# Altium schematic symbol library Regulator_Controller.SchLib: 153 symbols (part 2 of 2)
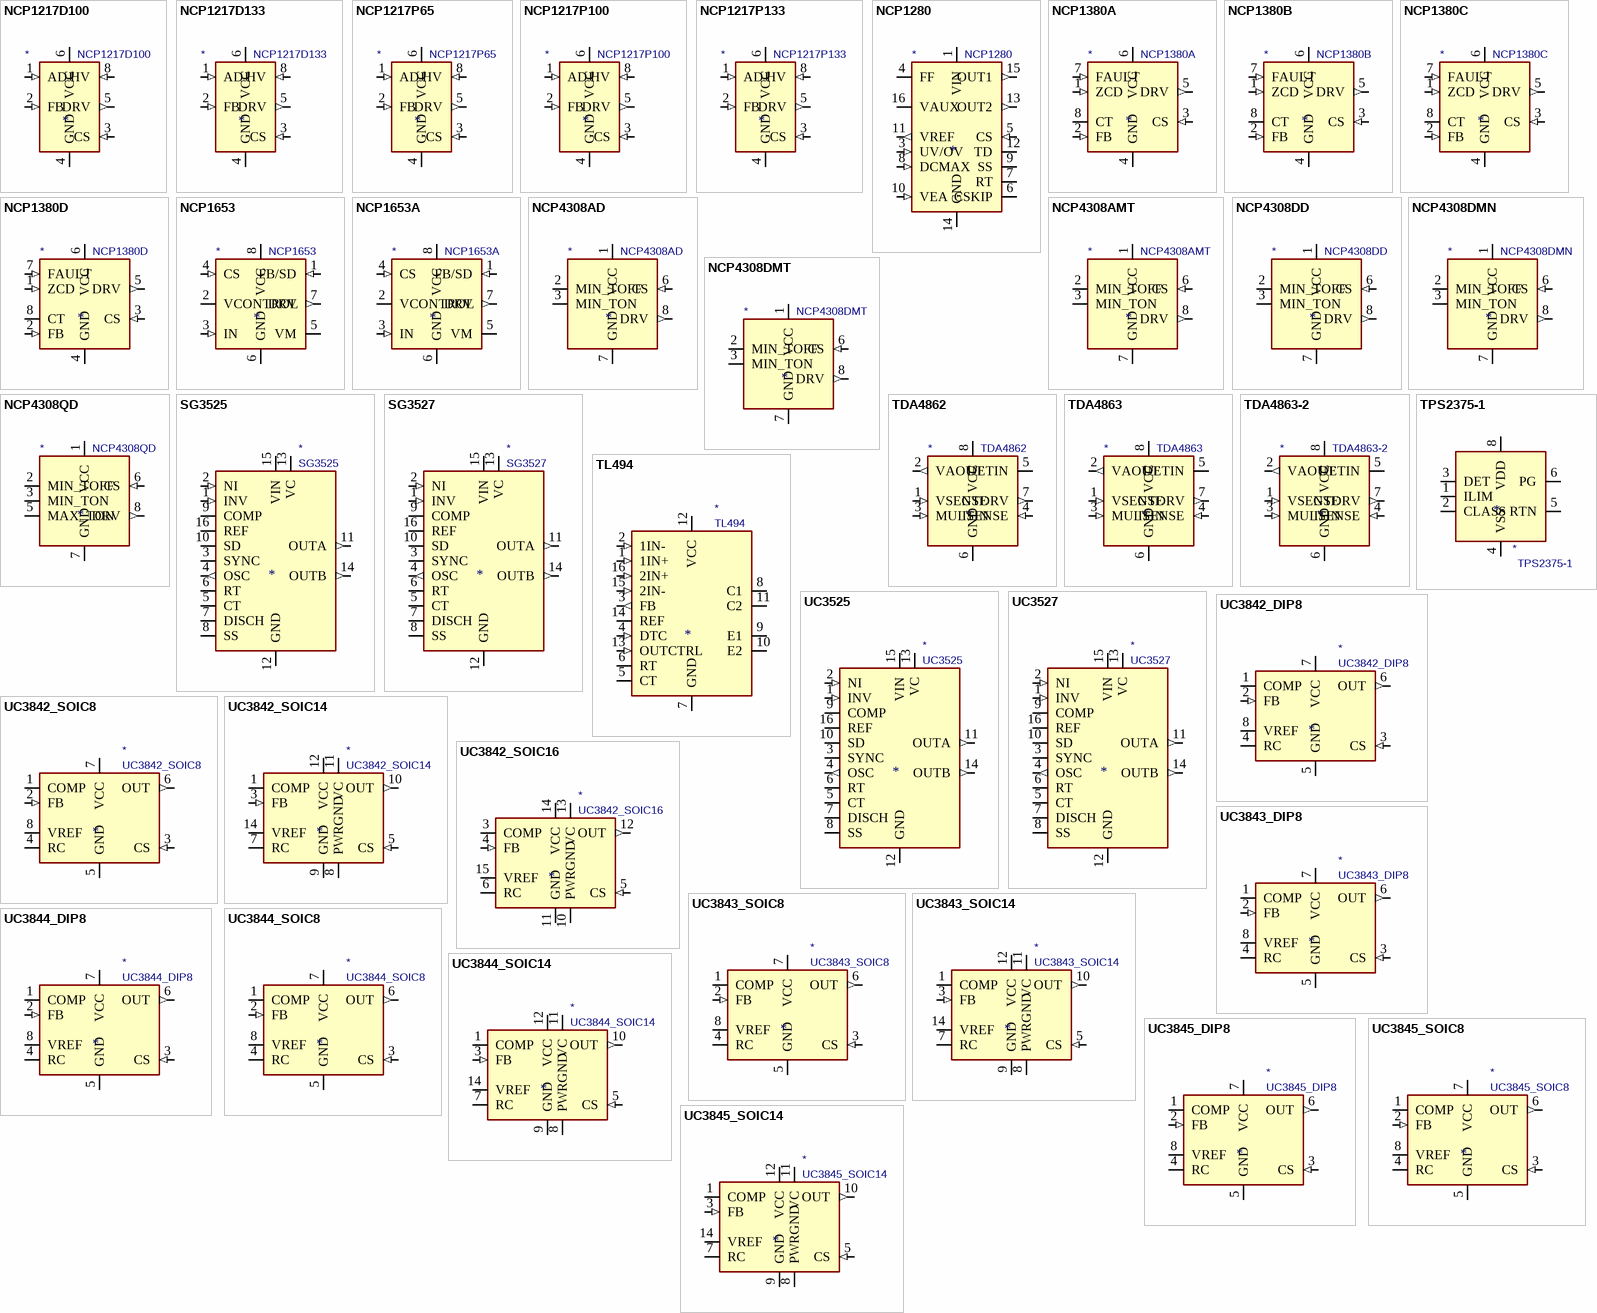
[diagram p4: symbols NCP1217D100 to UC3845_SOIC14]

## SG3525
designator *  value SG3525
ki_keywords: SMPS PWM Controller; ki_description: Regulating Pulse Width Modulators, NOR Logic, PDIP-16/SOIC-16; ki_fp_filters: SOIC*16*3.9x9.9mm*P1.27mm* SOIC*16*7.5x10.3mm*P1.27mm* DIP*16*W7.62mm*; Supplier: www.st.com/resource/en/datasheet/sg3525.pdf
pins: 1 INV (in), 2 NI (in), 3 SYNC, 4 OSC (out), 5 CT, 6 RT, 7 DISCH (oc), 8 SS, 9 COMP, 10 SD, 11 OUTA (out), 12 GND (power), 13 VC (power), 14 OUTB (out), 15 VIN (power), 16 REF (power)

## SG3527
designator *  value SG3527
ki_keywords: SMPS PWM Controller; ki_description: Regulating Pulse Width Modulators, OR Logic, PDIP-16/SOIC-16; ki_fp_filters: SOIC*16*3.9x9.9mm*P1.27mm* SOIC*16*7.5x10.3mm*P1.27mm* DIP*16*W7.62mm*; Supplier: https://www.microsemi.com/document-portal/doc_view/11120-sg1525a-sg1527a-datasheet
pins: 1 INV (in), 2 NI (in), 3 SYNC, 4 OSC (out), 5 CT, 6 RT, 7 DISCH (oc), 8 SS, 9 COMP, 10 SD, 11 OUTA (out), 12 GND (power), 13 VC (power), 14 OUTB (out), 15 VIN (power), 16 REF (power)

## TDA4862
designator *  value TDA4862
ki_keywords: PFC SMPS Controller; ki_description: Power Factor Controller IC for High Power Factor and Active Harmonic Filter, DIP-8/SOIC-8; ki_fp_filters: SOIC*3.9x4.9mm*P1.27mm* DIP*W7.62mm*; Supplier: https://www.infineon.com/dgdl/Infineon-PFC_DCMICTDA4862G-DS-v02_00-en.pdf?fileId=db3a304412b407950112b417ffae24a3
pins: 1 VSENSE (in), 2 VAOUT (out), 3 MULTIN (in), 4 ISENSE (in), 5 DETIN, 6 GND (power), 7 GTDRV (out), 8 VCC (power)

## TDA4863
designator *  value TDA4863
ki_keywords: PFC SMPS Controller; ki_description: Power Factor Controller IC for High Power Factor and Low THD, DIP-8/SOIC-8; ki_fp_filters: SOIC*3.9x4.9mm*P1.27mm* DIP*W7.62mm*; Supplier: https://www.infineon.com/dgdl/Infineon-TDA4863-DS-v02_00-en.pdf?fileId=db3a304412b407950112b427d2d23ce8
pins: 1 VSENSE (in), 2 VAOUT (out), 3 MULTIN (in), 4 ISENSE (in), 5 DETIN, 6 GND (power), 7 GTDRV (out), 8 VCC (power)

## TDA4863-2
designator *  value TDA4863-2
ki_keywords: PFC SMPS Controller; ki_description: Power Factor Controller IC for High Power Factor and Low THD, DIP-8/SOIC-8; ki_fp_filters: SOIC*3.9x4.9mm*P1.27mm* DIP*W7.62mm*; Supplier: https://www.infineon.com/dgdl/Infineon-TDA4863_2-DS-v02_01-en.pdf?fileId=db3a304412b407950112b41802de24ab
pins: 1 VSENSE (in), 2 VAOUT (out), 3 MULTIN (in), 4 ISENSE (in), 5 DETIN, 6 GND (power), 7 GTDRV (out), 8 VCC (power)

## TL494
designator *  value TL494
ki_keywords: SMPS PWM Controller; ki_description: Pulse-Width-Modulation Control Circuits, PDIP-16/SOIC-16/TSSOP-16; ki_fp_filters: TSSOP*4.4x5mm*P0.65mm* SOIC*3.9x9.9mm*P1.27mm* SOIC*5.3x10.2mm*P1.27mm* DIP*W7.62mm*; Supplier: http://www.ti.com/lit/ds/symlink/tl494.pdf
pins: 1 1IN+ (in), 2 1IN- (in), 3 FB (out), 4 DTC (in), 5 CT, 6 RT, 7 GND (power), 8 C1, 9 E1, 10 E2, 11 C2, 12 VCC (power), 13 OUTCTRL (in), 14 REF (power), 15 2IN- (in), 16 2IN+ (in)

## TPS2375-1
designator *  value TPS2375-1
ki_keywords: IEEE802.3af PoE; ki_description: IEEE802.3af PoE Controller, Auto-Retry; ki_fp_filters: TSSOP*4.4x3mm*P0.65mm*; Footprint: Package_SO:TSSOP-8_4.4x3mm_P0.65mm; Supplier: https://www.ti.com/lit/gpn/tps2375-1
footprint TSSOP-8_4.4x3mm_P0.65mm
pins: 1 ILIM, 2 CLASS, 3 DET, 4 VSS (power), 5 RTN (power), 6 PG (oc), 7 NC (in) hidden, 8 VDD (power)

## UC3525
designator *  value UC3525
ki_keywords: SMPS PWM Controller; ki_description: Regulating Pulse Width Modulators, NOR Logic, PDIP-16/SOIC-16; ki_fp_filters: SOIC*16*7.5x10.3mm*P1.27mm* DIP*16*W7.62mm*; Supplier: http://www.ti.com/lit/ds/symlink/uc2525b.pdf
pins: 1 INV (in), 2 NI (in), 3 SYNC, 4 OSC (out), 5 CT, 6 RT, 7 DISCH (oc), 8 SS, 9 COMP, 10 SD, 11 OUTA (out), 12 GND (power), 13 VC (power), 14 OUTB (out), 15 VIN (power), 16 REF (power)

## UC3527
designator *  value UC3527
ki_keywords: SMPS PWM Controller; ki_description: Regulating Pulse Width Modulators, OR Logic, PDIP-16/SOIC-16; ki_fp_filters: SOIC*16*7.5x10.3mm*P1.27mm* DIP*16*W7.62mm*; Supplier: http://www.ti.com/lit/ds/symlink/uc2525b.pdf
pins: 1 INV (in), 2 NI (in), 3 SYNC, 4 OSC (out), 5 CT, 6 RT, 7 DISCH (oc), 8 SS, 9 COMP, 10 SD, 11 OUTA (out), 12 GND (power), 13 VC (power), 14 OUTB (out), 15 VIN (power), 16 REF (power)

## UC3842_DIP8
designator *  value UC3842_DIP8
ki_keywords: SMPS PWM Controller; ki_description: Current-Mode PWM Controllers, 100% Duty Cycle, 16V/10V UVLO, PDIP-8; ki_fp_filters: DIP*W7.62mm*; Footprint: Package_DIP:DIP-8_W7.62mm; Supplier: http://www.ti.com/lit/ds/symlink/uc3842.pdf
footprint DIP-8_W7.62mm
pins: 1 COMP, 2 FB (in), 3 CS (in), 4 RC, 5 GND (power), 6 OUT (out), 7 VCC (power), 8 VREF (power)

## UC3842_SOIC8
designator *  value UC3842_SOIC8
ki_keywords: SMPS PWM Controller; ki_description: Current-Mode PWM Controllers, 100% Duty Cycle, 16V/10V UVLO, SOIC-8; ki_fp_filters: SOIC*3.9x4.9mm*P1.27mm*; Footprint: Package_SO:SOIC-8_3.9x4.9mm_P1.27mm; Supplier: http://www.ti.com/lit/ds/symlink/uc3842.pdf
footprint SOIC-8_3.9x4.9mm_P1.27mm
pins: 1 COMP, 2 FB (in), 3 CS (in), 4 RC, 5 GND (power), 6 OUT (out), 7 VCC (power), 8 VREF (power)

## UC3842_SOIC14
designator *  value UC3842_SOIC14
ki_keywords: SMPS PWM Controller; ki_description: Current-Mode PWM Controllers, 100% Duty Cycle, 16V/10V UVLO, SOIC-14; ki_fp_filters: SOIC*3.9x8.7mm*P1.27mm*; Footprint: Package_SO:SOIC-14_3.9x8.7mm_P1.27mm; Supplier: http://www.ti.com/lit/ds/symlink/uc3842.pdf
footprint SOIC-14_3.9x8.7mm_P1.27mm
pins: 1 COMP, 2 NC (in) hidden, 3 FB (in), 4 NC (in) hidden, 5 CS (in), 6 NC (in) hidden, 7 RC, 8 PWRGND (power), 9 GND (power), 10 OUT (out), 11 VC (power), 12 VCC (power), 13 NC (in) hidden, 14 VREF (power)

## UC3842_SOIC16
designator *  value UC3842_SOIC16
ki_keywords: SMPS PWM Controller; ki_description: Current-Mode PWM Controllers, 100% Duty Cycle, 16V/10V UVLO, SOIC-16; ki_fp_filters: SOIC*7.5x10.3mm*P1.27mm*; Footprint: Package_SO:SOIC-16W_7.5x10.3mm_P1.27mm; Supplier: http://www.ti.com/lit/ds/symlink/uc2843a.pdf
footprint SOIC-16W_7.5x10.3mm_P1.27mm
pins: 1 NC (in) hidden, 2 NC (in) hidden, 3 COMP, 4 FB (in), 5 CS (in), 6 RC, 7 NC (in) hidden, 8 NC (in) hidden, 9 NC (in) hidden, 10 PWRGND (power), 11 GND (power), 12 OUT (out), 13 VC (power), 14 VCC (power), 15 VREF (power), 16 NC (in) hidden

## UC3843_DIP8
designator *  value UC3843_DIP8
ki_keywords: SMPS PWM Controller; ki_description: Current-Mode PWM Controllers, 100% Duty Cycle, 8.4V/7.6V UVLO, PDIP-8; ki_fp_filters: DIP*W7.62mm*; Footprint: Package_DIP:DIP-8_W7.62mm; Supplier: http://www.ti.com/lit/ds/symlink/uc3842.pdf
footprint DIP-8_W7.62mm
pins: 1 COMP, 2 FB (in), 3 CS (in), 4 RC, 5 GND (power), 6 OUT (out), 7 VCC (power), 8 VREF (power)

## UC3843_SOIC8
designator *  value UC3843_SOIC8
ki_keywords: SMPS PWM Controller; ki_description: Current-Mode PWM Controllers, 100% Duty Cycle, 8.4V/7.6V UVLO, SOIC-8; ki_fp_filters: SOIC*3.9x4.9mm*P1.27mm*; Footprint: Package_SO:SOIC-8_3.9x4.9mm_P1.27mm; Supplier: http://www.ti.com/lit/ds/symlink/uc3842.pdf
footprint SOIC-8_3.9x4.9mm_P1.27mm
pins: 1 COMP, 2 FB (in), 3 CS (in), 4 RC, 5 GND (power), 6 OUT (out), 7 VCC (power), 8 VREF (power)

## UC3843_SOIC14
designator *  value UC3843_SOIC14
ki_keywords: SMPS PWM Controller; ki_description: Current-Mode PWM Controllers, 100% Duty Cycle, 8.4V/7.6V UVLO, SOIC-14; ki_fp_filters: SOIC*3.9x8.7mm*P1.27mm*; Footprint: Package_SO:SOIC-14_3.9x8.7mm_P1.27mm; Supplier: http://www.ti.com/lit/ds/symlink/uc3842.pdf
footprint SOIC-14_3.9x8.7mm_P1.27mm
pins: 1 COMP, 2 NC (in) hidden, 3 FB (in), 4 NC (in) hidden, 5 CS (in), 6 NC (in) hidden, 7 RC, 8 PWRGND (power), 9 GND (power), 10 OUT (out), 11 VC (power), 12 VCC (power), 13 NC (in) hidden, 14 VREF (power)

## UC3844_DIP8
designator *  value UC3844_DIP8
ki_keywords: SMPS PWM Controller; ki_description: Current-Mode PWM Controllers, 50% Duty Cycle, 16V/10V UVLO, PDIP-8; ki_fp_filters: DIP*W7.62mm*; Footprint: Package_DIP:DIP-8_W7.62mm; Supplier: http://www.ti.com/lit/ds/symlink/uc3842.pdf
footprint DIP-8_W7.62mm
pins: 1 COMP, 2 FB (in), 3 CS (in), 4 RC, 5 GND (power), 6 OUT (out), 7 VCC (power), 8 VREF (power)

## UC3844_SOIC8
designator *  value UC3844_SOIC8
ki_keywords: SMPS PWM Controller; ki_description: Current-Mode PWM Controllers, 50% Duty Cycle, 16V/10V UVLO, SOIC-8; ki_fp_filters: SOIC*3.9x4.9mm*P1.27mm*; Footprint: Package_SO:SOIC-8_3.9x4.9mm_P1.27mm; Supplier: http://www.ti.com/lit/ds/symlink/uc3842.pdf
footprint SOIC-8_3.9x4.9mm_P1.27mm
pins: 1 COMP, 2 FB (in), 3 CS (in), 4 RC, 5 GND (power), 6 OUT (out), 7 VCC (power), 8 VREF (power)

## UC3844_SOIC14
designator *  value UC3844_SOIC14
ki_keywords: SMPS PWM Controller; ki_description: Current-Mode PWM Controllers, 50% Duty Cycle, 16V/10V UVLO, SOIC-14; ki_fp_filters: SOIC*3.9x8.7mm*P1.27mm*; Footprint: Package_SO:SOIC-14_3.9x8.7mm_P1.27mm; Supplier: http://www.ti.com/lit/ds/symlink/uc3842.pdf
footprint SOIC-14_3.9x8.7mm_P1.27mm
pins: 1 COMP, 2 NC (in) hidden, 3 FB (in), 4 NC (in) hidden, 5 CS (in), 6 NC (in) hidden, 7 RC, 8 PWRGND (power), 9 GND (power), 10 OUT (out), 11 VC (power), 12 VCC (power), 13 NC (in) hidden, 14 VREF (power)

## UC3845_DIP8
designator *  value UC3845_DIP8
ki_keywords: SMPS PWM Controller; ki_description: Current-Mode PWM Controllers, 50% Duty Cycle, 8.4V/7.6V UVLO, PDIP-8; ki_fp_filters: DIP*W7.62mm*; Footprint: Package_DIP:DIP-8_W7.62mm; Supplier: http://www.ti.com/lit/ds/symlink/uc3842.pdf
footprint DIP-8_W7.62mm
pins: 1 COMP, 2 FB (in), 3 CS (in), 4 RC, 5 GND (power), 6 OUT (out), 7 VCC (power), 8 VREF (power)

## UC3845_SOIC8
designator *  value UC3845_SOIC8
ki_keywords: SMPS PWM Controller; ki_description: Current-Mode PWM Controllers, 50% Duty Cycle, 8.4V/7.6V UVLO, SOIC-8; ki_fp_filters: SOIC*3.9x4.9mm*P1.27mm*; Footprint: Package_SO:SOIC-8_3.9x4.9mm_P1.27mm; Supplier: http://www.ti.com/lit/ds/symlink/uc3842.pdf
footprint SOIC-8_3.9x4.9mm_P1.27mm
pins: 1 COMP, 2 FB (in), 3 CS (in), 4 RC, 5 GND (power), 6 OUT (out), 7 VCC (power), 8 VREF (power)

## UC3845_SOIC14
designator *  value UC3845_SOIC14
ki_keywords: SMPS PWM Controller; ki_description: Current-Mode PWM Controllers, 50% Duty Cycle, 8.4V/7.6V UVLO, SOIC-14; ki_fp_filters: SOIC*3.9x8.7mm*P1.27mm*; Footprint: Package_SO:SOIC-14_3.9x8.7mm_P1.27mm; Supplier: http://www.ti.com/lit/ds/symlink/uc3842.pdf
footprint SOIC-14_3.9x8.7mm_P1.27mm
pins: 1 COMP, 2 NC (in) hidden, 3 FB (in), 4 NC (in) hidden, 5 CS (in), 6 NC (in) hidden, 7 RC, 8 PWRGND (power), 9 GND (power), 10 OUT (out), 11 VC (power), 12 VCC (power), 13 NC (in) hidden, 14 VREF (power)

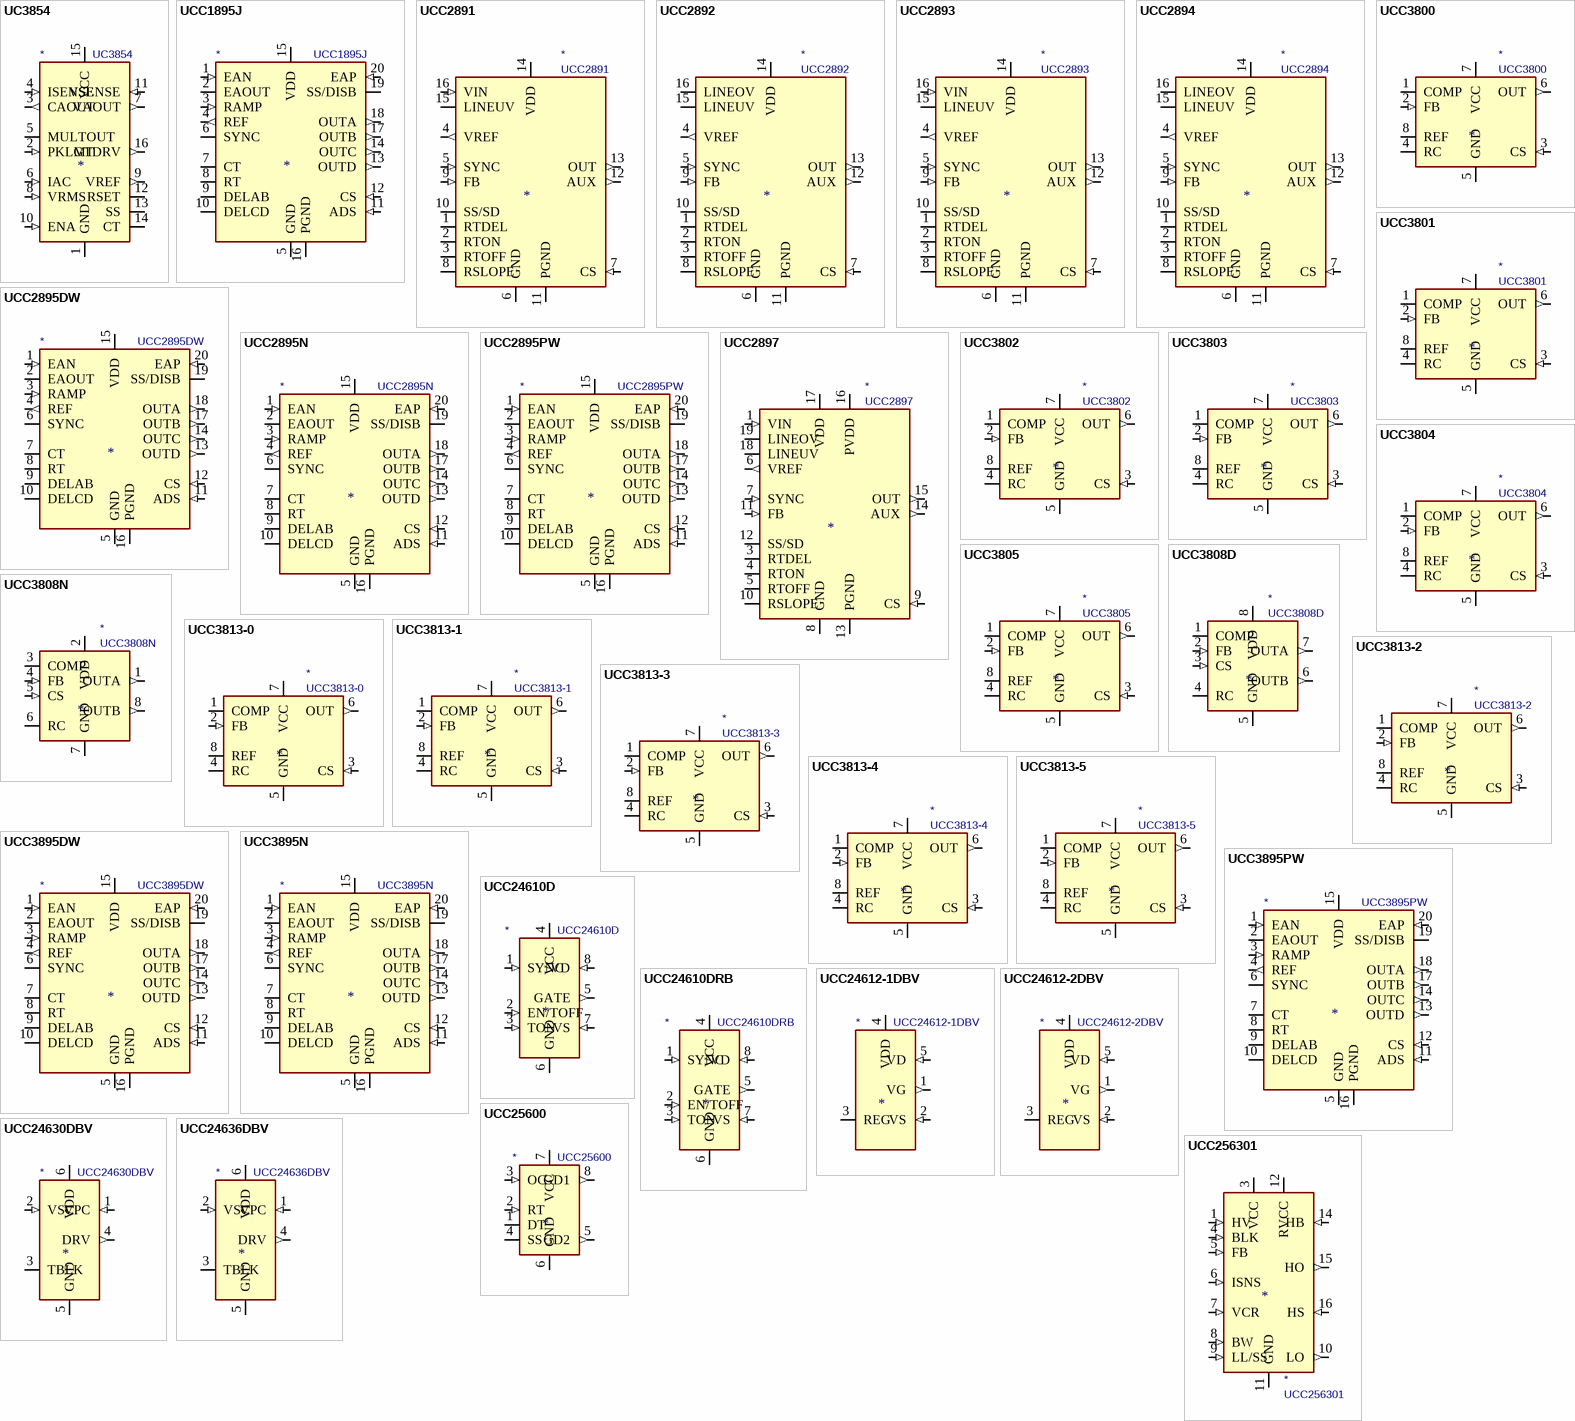
[diagram p3: symbols UC3854 to UCC256301]

## UC3854
designator *  value UC3854
ki_keywords: PFC SMPS Controller; ki_description: High-Power Factor Preregulator, DIP-16/SOIC-16W; ki_fp_filters: SOIC*7.5x10.3mm*P1.27mm* DIP*W7.62mm*; Supplier: http://www.ti.com/lit/ds/symlink/uc3854.pdf
pins: 1 GND (power), 2 PKLMT (in), 3 CAOUT (out), 4 ISENSE (in), 5 MULTOUT, 6 IAC (in), 7 VAOUT (out), 8 VRMS (in), 9 VREF (out), 10 ENA (in), 11 VSENSE (in), 12 RSET, 13 SS, 14 CT, 15 VCC (power), 16 GTDRV (out)

## UCC1895J
designator *  value UCC1895J
ki_keywords: Phase-shift full-bridge converter; ki_description: BiCMOS, Advanced Phase-ShiftPWM Controller, CDIP-20; ki_fp_filters: DIP*W7.62mm*; Footprint: Package_DIP:DIP-20_W7.62mm_LongPads; Supplier: http://www.ti.com/lit/ds/symlink/ucc3895.pdf
footprint DIP-20_W7.62mm_LongPads
pins: 1 EAN (in), 2 EAOUT (io), 3 RAMP (in), 4 REF (out), 5 GND (power), 6 SYNC (io), 7 CT, 8 RT, 9 DELAB, 10 DELCD, 11 ADS (in), 12 CS (in), 13 OUTD (out), 14 OUTC (out), 15 VDD (power), 16 PGND (power), 17 OUTB (out), 18 OUTA (out), 19 SS/DISB, 20 EAP (in)

## UCC2891
designator *  value UCC2891
ki_keywords: SMPS PWM Controller; ki_description: SMPS Current-Mode Active Clamp PWM Controller, SOIC-16/TSSOP-16; ki_fp_filters: SOIC*3.9x9.9mm*P1.27mm* TSSOP*4.4x5mm*P0.65mm*; Supplier: http://www.ti.com/lit/ds/symlink/ucc2891.pdf
pins: 1 RTDEL, 2 RTON, 3 RTOFF, 4 VREF (out), 5 SYNC (in), 6 GND (power), 7 CS (in), 8 RSLOPE, 9 FB (in), 10 SS/SD, 11 PGND (power), 12 AUX (out), 13 OUT (out), 14 VDD (power), 15 LINEUV, 16 VIN (in)

## UCC2892
designator *  value UCC2892
ki_keywords: SMPS PWM Controller; ki_description: SMPS Current-Mode Active Clamp PWM Controller, SOIC-16/TSSOP-16; ki_fp_filters: SOIC*3.9x9.9mm*P1.27mm* TSSOP*4.4x5mm*P0.65mm*; Supplier: http://www.ti.com/lit/ds/symlink/ucc2892.pdf
pins: 1 RTDEL, 2 RTON, 3 RTOFF, 4 VREF (out), 5 SYNC (in), 6 GND (power), 7 CS (in), 8 RSLOPE, 9 FB (in), 10 SS/SD, 11 PGND (power), 12 AUX (out), 13 OUT (out), 14 VDD (power), 15 LINEUV, 16 LINEOV

## UCC2893
designator *  value UCC2893
ki_keywords: SMPS PWM Controller; ki_description: SMPS Current-Mode Active Clamp PWM Controller, SOIC-16/TSSOP-16; ki_fp_filters: SOIC*3.9x9.9mm*P1.27mm* TSSOP*4.4x5mm*P0.65mm*; Supplier: http://www.ti.com/lit/ds/symlink/ucc2893.pdf
pins: 1 RTDEL, 2 RTON, 3 RTOFF, 4 VREF (out), 5 SYNC (in), 6 GND (power), 7 CS (in), 8 RSLOPE, 9 FB (in), 10 SS/SD, 11 PGND (power), 12 AUX (out), 13 OUT (out), 14 VDD (power), 15 LINEUV, 16 VIN (in)

## UCC2894
designator *  value UCC2894
ki_keywords: SMPS PWM Controller; ki_description: SMPS Current-Mode Active Clamp PWM Controller, SOIC-16/TSSOP-16; ki_fp_filters: SOIC*3.9x9.9mm*P1.27mm* TSSOP*4.4x5mm*P0.65mm*; Supplier: http://www.ti.com/lit/ds/symlink/ucc2894.pdf
pins: 1 RTDEL, 2 RTON, 3 RTOFF, 4 VREF (out), 5 SYNC (in), 6 GND (power), 7 CS (in), 8 RSLOPE, 9 FB (in), 10 SS/SD, 11 PGND (power), 12 AUX (out), 13 OUT (out), 14 VDD (power), 15 LINEUV, 16 LINEOV

## UCC2895DW
designator *  value UCC2895DW
ki_keywords: Phase-shift full-bridge converter; ki_description: BiCMOS, Advanced Phase-ShiftPWM Controller, SOIC-20; ki_fp_filters: SOIC*7.5x12.8mm*P1.27mm*; Footprint: Package_SO:SOIC-20W_7.5x12.8mm_P1.27mm; Supplier: http://www.ti.com/lit/ds/symlink/ucc3895.pdf
footprint SOIC-20W_7.5x12.8mm_P1.27mm
pins: 1 EAN (in), 2 EAOUT (io), 3 RAMP (in), 4 REF (out), 5 GND (power), 6 SYNC (io), 7 CT, 8 RT, 9 DELAB, 10 DELCD, 11 ADS (in), 12 CS (in), 13 OUTD (out), 14 OUTC (out), 15 VDD (power), 16 PGND (power), 17 OUTB (out), 18 OUTA (out), 19 SS/DISB, 20 EAP (in)

## UCC2895N
designator *  value UCC2895N
ki_keywords: Phase-shift full-bridge converter; ki_description: BiCMOS, Advanced Phase-ShiftPWM Controller, DIP-20; ki_fp_filters: DIP*W7.62mm*; Footprint: Package_DIP:DIP-20_W7.62mm_LongPads; Supplier: http://www.ti.com/lit/ds/symlink/ucc3895.pdf
footprint DIP-20_W7.62mm_LongPads
pins: 1 EAN (in), 2 EAOUT (io), 3 RAMP (in), 4 REF (out), 5 GND (power), 6 SYNC (io), 7 CT, 8 RT, 9 DELAB, 10 DELCD, 11 ADS (in), 12 CS (in), 13 OUTD (out), 14 OUTC (out), 15 VDD (power), 16 PGND (power), 17 OUTB (out), 18 OUTA (out), 19 SS/DISB, 20 EAP (in)

## UCC2895PW
designator *  value UCC2895PW
ki_keywords: Phase-shift full-bridge converter; ki_description: BiCMOS, Advanced Phase-ShiftPWM Controller, TSSOP-20; ki_fp_filters: TSSOP*4.4x6.5mm*P0.65mm*; Footprint: Package_SO:TSSOP-20_4.4x6.5mm_P0.65mm; Supplier: http://www.ti.com/lit/ds/symlink/ucc3895.pdf
footprint TSSOP-20_4.4x6.5mm_P0.65mm
pins: 1 EAN (in), 2 EAOUT (io), 3 RAMP (in), 4 REF (out), 5 GND (power), 6 SYNC (io), 7 CT, 8 RT, 9 DELAB, 10 DELCD, 11 ADS (in), 12 CS (in), 13 OUTD (out), 14 OUTC (out), 15 VDD (power), 16 PGND (power), 17 OUTB (out), 18 OUTA (out), 19 SS/DISB, 20 EAP (in)

## UCC2897
designator *  value UCC2897
ki_keywords: SMPS PWM Controller; ki_description: SMPS Advanced Current-Mode Active Clamp PWM Controller, TSSOP-20/QFN-20; ki_fp_filters: TSSOP*4.4x6.5mm*P0.65mm* QFN*4x4mm*P0.5mm*; Supplier: http://www.ti.com/lit/ds/symlink/ucc2897.pdf
pins: 1 VIN (in), 2 N/C (in) hidden, 3 RTDEL, 4 RTON, 5 RTOFF, 6 VREF (out), 7 SYNC (in), 8 GND (power), 9 CS (in), 10 RSLOPE, 11 FB (in), 12 SS/SD, 13 PGND (power), 14 AUX (out), 15 OUT (out), 16 PVDD (power), 17 VDD (power), 18 LINEUV, 19 LINEOV, 20 N/C (in) hidden

## UCC3800
designator *  value UCC3800
ki_keywords: SMPS PWM Controller; ki_description: Low-Power BiCMOS Current-Mode PWM Controllers, 100% Duty Cycle, 7.2V/6.9V UVLO, DIP-8/SOIC-8/TSSOP-8; ki_fp_filters: TSSOP*4.4x3mm*P0.65mm* SOIC*3.9x4.9mm*P1.27mm* DIP*W7.62mm*; Supplier: http://www.ti.com/lit/ds/symlink/ucc3800.pdf
pins: 1 COMP, 2 FB (in), 3 CS (in), 4 RC, 5 GND (power), 6 OUT (out), 7 VCC (power), 8 REF (power)

## UCC3801
designator *  value UCC3801
ki_keywords: SMPS PWM Controller; ki_description: Low-Power BiCMOS Current-Mode PWM Controllers, 50% Duty Cycle, 9.4V/7.4V UVLO, DIP-8/SOIC-8/TSSOP-8; ki_fp_filters: TSSOP*4.4x3mm*P0.65mm* SOIC*3.9x4.9mm*P1.27mm* DIP*W7.62mm*; Supplier: http://www.ti.com/lit/ds/symlink/ucc3800.pdf
pins: 1 COMP, 2 FB (in), 3 CS (in), 4 RC, 5 GND (power), 6 OUT (out), 7 VCC (power), 8 REF (power)

## UCC3802
designator *  value UCC3802
ki_keywords: SMPS PWM Controller; ki_description: Low-Power BiCMOS Current-Mode PWM Controllers, 100% Duty Cycle, 12.5V/8.3V UVLO, DIP-8/SOIC-8/TSSOP-8; ki_fp_filters: TSSOP*4.4x3mm*P0.65mm* SOIC*3.9x4.9mm*P1.27mm* DIP*W7.62mm*; Supplier: http://www.ti.com/lit/ds/symlink/ucc3800.pdf
pins: 1 COMP, 2 FB (in), 3 CS (in), 4 RC, 5 GND (power), 6 OUT (out), 7 VCC (power), 8 REF (power)

## UCC3803
designator *  value UCC3803
ki_keywords: SMPS PWM Controller; ki_description: Low-Power BiCMOS Current-Mode PWM Controllers, 100% Duty Cycle, 4.1V/3.6V UVLO, DIP-8/SOIC-8/TSSOP-8; ki_fp_filters: TSSOP*4.4x3mm*P0.65mm* SOIC*3.9x4.9mm*P1.27mm* DIP*W7.62mm*; Supplier: http://www.ti.com/lit/ds/symlink/ucc3800.pdf
pins: 1 COMP, 2 FB (in), 3 CS (in), 4 RC, 5 GND (power), 6 OUT (out), 7 VCC (power), 8 REF (power)

## UCC3804
designator *  value UCC3804
ki_keywords: SMPS PWM Controller; ki_description: Low-Power BiCMOS Current-Mode PWM Controllers, 50% Duty Cycle, 12.5V/8.3V UVLO, DIP-8/SOIC-8/TSSOP-8; ki_fp_filters: TSSOP*4.4x3mm*P0.65mm* SOIC*3.9x4.9mm*P1.27mm* DIP*W7.62mm*; Supplier: http://www.ti.com/lit/ds/symlink/ucc3800.pdf
pins: 1 COMP, 2 FB (in), 3 CS (in), 4 RC, 5 GND (power), 6 OUT (out), 7 VCC (power), 8 REF (power)

## UCC3805
designator *  value UCC3805
ki_keywords: SMPS PWM Controller; ki_description: Low-Power BiCMOS Current-Mode PWM Controllers, 50% Duty Cycle, 4.1V/3.6V UVLO, DIP-8/SOIC-8/TSSOP-8; ki_fp_filters: TSSOP*4.4x3mm*P0.65mm* SOIC*3.9x4.9mm*P1.27mm* DIP*W7.62mm*; Supplier: http://www.ti.com/lit/ds/symlink/ucc3800.pdf
pins: 1 COMP, 2 FB (in), 3 CS (in), 4 RC, 5 GND (power), 6 OUT (out), 7 VCC (power), 8 REF (power)

## UCC3808D
designator *  value UCC3808D
ki_keywords: SMPS PWM Controller; ki_description: Low Power Current Mode Push-Pull PWM, SOIC-8; ki_fp_filters: SOIC*3.9x4.9mm*P1.27mm*; Footprint: Package_SO:SOIC-8_3.9x4.9mm_P1.27mm; Supplier: http://www.ti.com/lit/ds/symlink/ucc3808-2.pdf
footprint SOIC-8_3.9x4.9mm_P1.27mm
pins: 1 COMP, 2 FB (in), 3 CS (in), 4 RC, 5 GND (power), 6 OUTB (out), 7 OUTA (out), 8 VDD (power)

## UCC3808N
designator *  value UCC3808N
ki_keywords: SMPS PWM Controller; ki_description: Low Power Current Mode Push-Pull PWM, PDIP-8; ki_fp_filters: DIP*W7.62mm*; Footprint: Package_DIP:DIP-8_W7.62mm; Supplier: http://www.ti.com/lit/ds/symlink/ucc3808-2.pdf
footprint DIP-8_W7.62mm
pins: 1 OUTA (out), 2 VDD (power), 3 COMP, 4 FB (in), 5 CS (in), 6 RC, 7 GND (power), 8 OUTB (out)

## UCC3813-0
designator *  value UCC3813-0
ki_keywords: SMPS PWM Controller; ki_description: Low-Power Economy BiCMOS Current-Mode PWM, 100% Duty Cycle, 7.2V/6.9V UVLO, DIP-8/SOIC-8/TSSOP-8; ki_fp_filters: TSSOP*4.4x3mm*P0.65mm* SOIC*3.9x4.9mm*P1.27mm* DIP*W7.62mm*; Supplier: http://www.ti.com/lit/ds/symlink/ucc3813-1.pdf
pins: 1 COMP, 2 FB (in), 3 CS (in), 4 RC, 5 GND (power), 6 OUT (out), 7 VCC (power), 8 REF (power)

## UCC3813-1
designator *  value UCC3813-1
ki_keywords: SMPS PWM Controller; ki_description: Low-Power Economy BiCMOS Current-Mode PWM, 50% Duty Cycle, 9.4V/7.4V UVLO, DIP-8/SOIC-8/TSSOP-8; ki_fp_filters: TSSOP*4.4x3mm*P0.65mm* SOIC*3.9x4.9mm*P1.27mm* DIP*W7.62mm*; Supplier: http://www.ti.com/lit/ds/symlink/ucc3813-1.pdf
pins: 1 COMP, 2 FB (in), 3 CS (in), 4 RC, 5 GND (power), 6 OUT (out), 7 VCC (power), 8 REF (power)

## UCC3813-2
designator *  value UCC3813-2
ki_keywords: SMPS PWM Controller; ki_description: Low-Power Economy BiCMOS Current-Mode PWM, 100% Duty Cycle, 12.5V/8.3V UVLO, DIP-8/SOIC-8/TSSOP-8; ki_fp_filters: TSSOP*4.4x3mm*P0.65mm* SOIC*3.9x4.9mm*P1.27mm* DIP*W7.62mm*; Supplier: http://www.ti.com/lit/ds/symlink/ucc3813-1.pdf
pins: 1 COMP, 2 FB (in), 3 CS (in), 4 RC, 5 GND (power), 6 OUT (out), 7 VCC (power), 8 REF (power)

## UCC3813-3
designator *  value UCC3813-3
ki_keywords: SMPS PWM Controller; ki_description: Low-Power Economy BiCMOS Current-Mode PWM, 100% Duty Cycle, 4.1V/3.6V UVLO, DIP-8/SOIC-8/TSSOP-8; ki_fp_filters: TSSOP*4.4x3mm*P0.65mm* SOIC*3.9x4.9mm*P1.27mm* DIP*W7.62mm*; Supplier: http://www.ti.com/lit/ds/symlink/ucc3813-1.pdf
pins: 1 COMP, 2 FB (in), 3 CS (in), 4 RC, 5 GND (power), 6 OUT (out), 7 VCC (power), 8 REF (power)

## UCC3813-4
designator *  value UCC3813-4
ki_keywords: SMPS PWM Controller; ki_description: Low-Power Economy BiCMOS Current-Mode PWM, 50% Duty Cycle, 12.5V/8.3V UVLO, DIP-8/SOIC-8/TSSOP-8; ki_fp_filters: TSSOP*4.4x3mm*P0.65mm* SOIC*3.9x4.9mm*P1.27mm* DIP*W7.62mm*; Supplier: http://www.ti.com/lit/ds/symlink/ucc3813-1.pdf
pins: 1 COMP, 2 FB (in), 3 CS (in), 4 RC, 5 GND (power), 6 OUT (out), 7 VCC (power), 8 REF (power)

## UCC3813-5
designator *  value UCC3813-5
ki_keywords: SMPS PWM Controller; ki_description: Low-Power Economy BiCMOS Current-Mode PWM, 50% Duty Cycle, 4.1V/3.6V UVLO, DIP-8/SOIC-8/TSSOP-8; ki_fp_filters: TSSOP*4.4x3mm*P0.65mm* SOIC*3.9x4.9mm*P1.27mm* DIP*W7.62mm*; Supplier: http://www.ti.com/lit/ds/symlink/ucc3813-1.pdf
pins: 1 COMP, 2 FB (in), 3 CS (in), 4 RC, 5 GND (power), 6 OUT (out), 7 VCC (power), 8 REF (power)

## UCC3895DW
designator *  value UCC3895DW
ki_keywords: Phase-shift full-bridge converter; ki_description: BiCMOS, Advanced Phase-ShiftPWM Controller, SOIC-20; ki_fp_filters: SOIC*7.5x12.8mm*P1.27mm*; Footprint: Package_SO:SOIC-20W_7.5x12.8mm_P1.27mm; Supplier: http://www.ti.com/lit/ds/symlink/ucc3895.pdf
footprint SOIC-20W_7.5x12.8mm_P1.27mm
pins: 1 EAN (in), 2 EAOUT (io), 3 RAMP (in), 4 REF (out), 5 GND (power), 6 SYNC (io), 7 CT, 8 RT, 9 DELAB, 10 DELCD, 11 ADS (in), 12 CS (in), 13 OUTD (out), 14 OUTC (out), 15 VDD (power), 16 PGND (power), 17 OUTB (out), 18 OUTA (out), 19 SS/DISB, 20 EAP (in)

## UCC3895N
designator *  value UCC3895N
ki_keywords: Phase-shift full-bridge converter; ki_description: BiCMOS, Advanced Phase-ShiftPWM Controller, DIP-20; ki_fp_filters: DIP*W7.62mm*; Footprint: Package_DIP:DIP-20_W7.62mm_LongPads; Supplier: http://www.ti.com/lit/ds/symlink/ucc3895.pdf
footprint DIP-20_W7.62mm_LongPads
pins: 1 EAN (in), 2 EAOUT (io), 3 RAMP (in), 4 REF (out), 5 GND (power), 6 SYNC (io), 7 CT, 8 RT, 9 DELAB, 10 DELCD, 11 ADS (in), 12 CS (in), 13 OUTD (out), 14 OUTC (out), 15 VDD (power), 16 PGND (power), 17 OUTB (out), 18 OUTA (out), 19 SS/DISB, 20 EAP (in)

## UCC3895PW
designator *  value UCC3895PW
ki_keywords: Phase-shift full-bridge converter; ki_description: BiCMOS, Advanced Phase-ShiftPWM Controller, TSSOP-20; ki_fp_filters: TSSOP*4.4x6.5mm*P0.65mm*; Footprint: Package_SO:TSSOP-20_4.4x6.5mm_P0.65mm; Supplier: http://www.ti.com/lit/ds/symlink/ucc3895.pdf
footprint TSSOP-20_4.4x6.5mm_P0.65mm
pins: 1 EAN (in), 2 EAOUT (io), 3 RAMP (in), 4 REF (out), 5 GND (power), 6 SYNC (io), 7 CT, 8 RT, 9 DELAB, 10 DELCD, 11 ADS (in), 12 CS (in), 13 OUTD (out), 14 OUTC (out), 15 VDD (power), 16 PGND (power), 17 OUTB (out), 18 OUTA (out), 19 SS/DISB, 20 EAP (in)

## UCC24610D
designator *  value UCC24610D
ki_keywords: synchronous rectifier controller; ki_description: GREEN Rectifier Controller Device, 600kHz, SOIC-8; ki_fp_filters: SOIC*3.9x4.9mm*P1.27mm*; Footprint: Package_SO:SOIC-8_3.9x4.9mm_P1.27mm; Supplier: http://www.ti.com/lit/ds/symlink/ucc24610.pdf
footprint SOIC-8_3.9x4.9mm_P1.27mm
pins: 1 SYNC (in), 2 EN/TOFF (in), 3 TON (in), 4 VCC (power), 5 GATE (out), 6 GND (power), 7 VS (in), 8 VD (in)

## UCC24610DRB
designator *  value UCC24610DRB
ki_keywords: synchronous rectifier controller; ki_description: GREEN Rectifier Controller Device, 600kHz, DFN-8; ki_fp_filters: Texas*DRB*; Footprint: Package_DFN_QFN:Texas_DRB0008A; Supplier: http://www.ti.com/lit/ds/symlink/ucc24610.pdf
footprint Texas_DRB0008A
pins: 1 SYNC (in), 2 EN/TOFF (in), 3 TON (in), 4 VCC (power), 5 GATE (out), 6 GND (power), 7 VS (in), 8 VD (in)

## UCC24612-1DBV
designator *  value UCC24612-1DBV
ki_keywords: synchronous rectifier controller; ki_description: High Frequency Synchronous Rectifier Controller, 1MHz, Min On Time = 375ns, SOT-23-5; ki_fp_filters: SOT?23*; Footprint: Package_TO_SOT_SMD:SOT-23-5; Supplier: http://www.ti.com/lit/ds/symlink/ucc24612.pdf
footprint SOT-23-5
pins: 1 VG (out), 2 VS (in), 3 REG, 4 VDD (power), 5 VD (in)

## UCC24612-2DBV
designator *  value UCC24612-2DBV
ki_keywords: synchronous rectifier controller; ki_description: High Frequency Synchronous Rectifier Controller, 800kHz, Min On Time = 540ns, SOT-23-5; ki_fp_filters: SOT?23*; Footprint: Package_TO_SOT_SMD:SOT-23-5; Supplier: http://www.ti.com/lit/ds/symlink/ucc24612.pdf
footprint SOT-23-5
pins: 1 VG (out), 2 VS (in), 3 REG, 4 VDD (power), 5 VD (in)

## UCC24630DBV
designator *  value UCC24630DBV
ki_keywords: synchronous rectifier controller; ki_description: Synchronous Rectifier Controller, 200kHz, CCM, SOT-23-6; ki_fp_filters: SOT?23*; Footprint: Package_TO_SOT_SMD:SOT-23-6; Supplier: http://www.ti.com/lit/ds/symlink/ucc24630.pdf
footprint SOT-23-6
pins: 1 VPC (in), 2 VSC (in), 3 TBLK, 4 DRV (out), 5 GND (power), 6 VDD (power)

## UCC24636DBV
designator *  value UCC24636DBV
ki_keywords: synchronous rectifier controller; ki_description: Synchronous Rectifier Controller, 130kHz, DCM/TM, SOT-23-6; ki_fp_filters: SOT?23*; Footprint: Package_TO_SOT_SMD:SOT-23-6; Supplier: http://www.ti.com/lit/ds/symlink/ucc24636.pdf
footprint SOT-23-6
pins: 1 VPC (in), 2 VSC (in), 3 TBLK, 4 DRV (out), 5 GND (power), 6 VDD (power)

## UCC25600
designator *  value UCC25600
ki_keywords: SMPS PWM Controller; ki_description: High-Performance Resonant Mode Controller, SOIC-8; ki_fp_filters: SOIC*3.9x4.9mm*P1.27mm*; Footprint: Package_SO:SOIC-8_3.9x4.9mm_P1.27mm; Supplier: http://www.ti.com/lit/ds/symlink/ucc25600.pdf
footprint SOIC-8_3.9x4.9mm_P1.27mm
pins: 1 DT, 2 RT (in), 3 OC (in), 4 SS, 5 GD2 (out), 6 GND (power), 7 VCC (power), 8 GD1 (out)

## UCC256301
designator *  value UCC256301
ki_keywords: SMPS PWM Controller; ki_description: Hybrid Hysteretic LLC Resonant Controller, SOIC-16; ki_fp_filters: SOIC*3.9x9.9mm*P1.27mm*; Footprint: Package_SO:SOIC-14-16_3.9x9.9mm_P1.27mm; Supplier: https://www.ti.com/lit/ds/symlink/ucc256301.pdf
footprint SOIC-14-16_3.9x9.9mm_P1.27mm
pins: 1 HV (in), 3 VCC (power), 4 BLK (in), 5 FB (in), 6 ISNS (in), 7 VCR (in), 8 BW (in), 9 LL/SS (in), 10 LO (out), 11 GND (power), 12 RVCC (power), 14 HB (in), 15 HO (out), 16 HS (in)